# EAGLE library part TDB-380 (library FansElectronics-Modul-MP3)
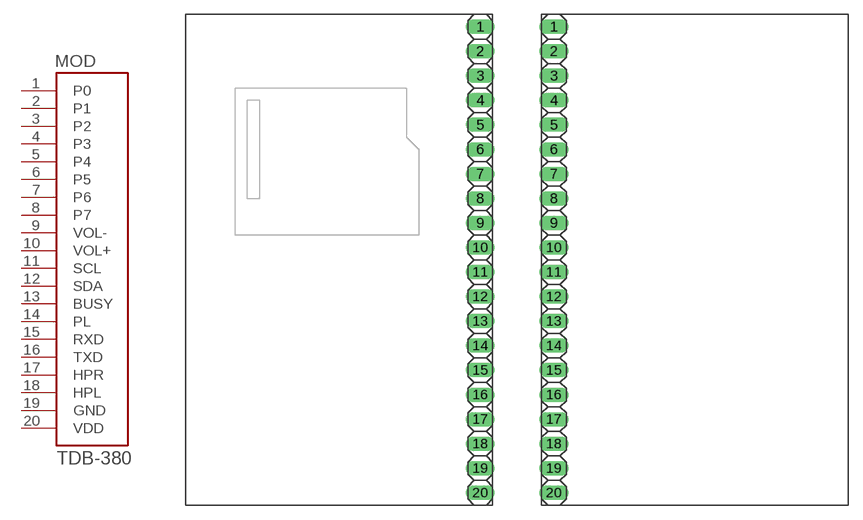
[diagram p0: symbol with the pads of TDB-380-MIRROR; footprints TDB-380-MIRROR, TDB-380]

Designator prefix MOD

## TDB-380-MIRROR  [TDB-380-MIRROR]
1  P0
2  P1
3  P2
4  P3
5  P4
6  P5
7  P6
8  P7
9  VOL-
10  VOL+
11  SCL
12  SDA
13  BUSY
14  PL
15  RXD
16  TXD
17  HPR
18  HPL
19  GND
20  VDD

## TDB-380  [TDB-380]
Pads as for TDB-380-MIRROR

## Footprint TDB-380-MIRROR (pad centres in mm)
drill 1.016 long: 1 0,24.13; 2 0,21.59; 3 0,19.05; 4 0,16.51; 5 0,13.97; 6 0,11.43; 7 0,8.89; 8 0,6.35; 9 0,3.81; 10 0,1.27; 11 0,-1.27; 12 0,-3.81; 13 0,-6.35; 14 0,-8.89; 15 0,-11.43; 16 0,-13.97; 17 0,-16.51; 18 0,-19.05; 19 0,-21.59; 20 0,-24.13

## Footprint TDB-380 (pad centres in mm)
drill 1.016 long: 1 0,22.86; 2 0,20.32; 3 0,17.78; 4 0,15.24; 5 0,12.7; 6 0,10.16; 7 0,7.62; 8 0,5.08; 9 0,2.54; 10 0,0; 11 0,-2.54; 12 0,-5.08; 13 0,-7.62; 14 0,-10.16; 15 0,-12.7; 16 0,-15.24; 17 0,-17.78; 18 0,-20.32; 19 0,-22.86; 20 0,-25.4